# Altium footprint library Tant_7343.PcbLib: 3 footprints
Each footprint in its own frame and in the unit in brackets; x right, y up, seen from the top. Pads: shape width x height; smd on the part's side, far side on the other; paste and mask are expansions set on the pad; w line width, h text height; cw(c..) or ccw(c..) is an arc to the next point about the centre after c.
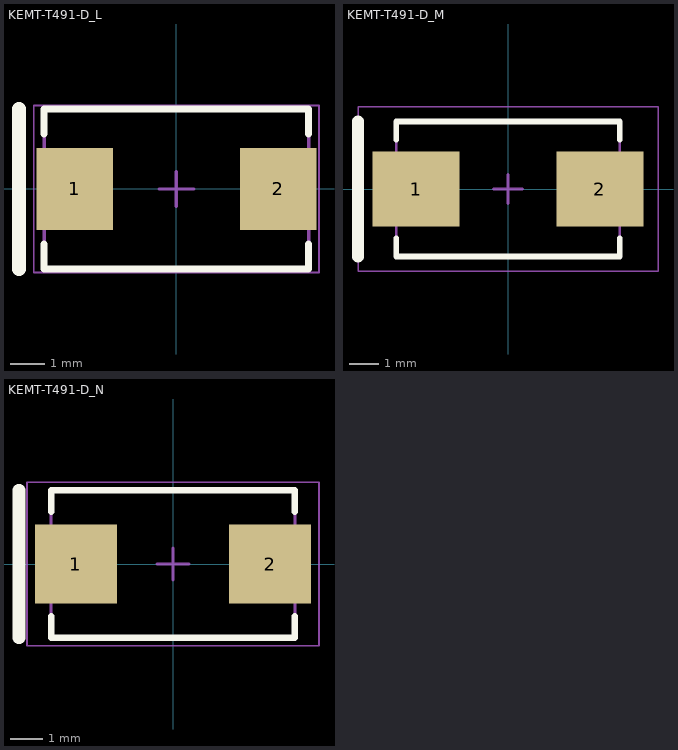
[diagram p0: the footprints below, top view; thin cyan lines are the x and y axes]

## KEMT-T491-D_L [mm] "Molded Capacitor, 2-Leads, Body 7.60x4.60mm, IPC High Density"
height 3.1
pads (2):
  rect 2.2x2.35 smd: 1(-2.925,0) 2(2.925,0)
Top Overlay:
  lines w0.2: -3.8,-1.575 -3.8,-2.3 3.8,-2.3 3.8,-1.575 ; -3.8,1.575 -3.8,2.3 3.8,2.3 3.8,1.575
  lines w0.4: -4.525,-2.3 -4.525,2.3
Mechanical 13:
  lines w0.1: -3.8,-2.3 3.8,-2.3 3.8,2.3 -3.8,2.3 -3.8,-2.3
Mechanical 15:
  lines w0.05: -4.1,-2.4 4.1,-2.4 4.1,2.4 -4.1,2.4 -4.1,-2.4
  lines w0.1: -0.5,0 0.5,0 ; 0,-0.5 0,0.5
3D body "T491D476M006AT.step": height 3.1, standoff 0, extent -3.8,-2.3 3.8,2.3

## KEMT-T491-D_M [mm] "Molded Capacitor, 2-Leads, Body 7.60x4.60mm, IPC Low Density"
height 3.1
pads (2):
  rect 2.95x2.55 smd: 1(-3.125,0) 2(3.125,0)
Top Overlay:
  lines w0.2: -3.8,-1.675 -3.8,-2.3 3.8,-2.3 3.8,-1.675 ; -3.8,1.675 -3.8,2.3 3.8,2.3 3.8,1.675
  lines w0.4: -5.1,-2.3 -5.1,2.3
Mechanical 13:
  lines w0.1: -3.8,-2.3 3.8,-2.3 3.8,2.3 -3.8,2.3 -3.8,-2.3
Mechanical 15:
  lines w0.05: -5.1,-2.8 5.1,-2.8 5.1,2.8 -5.1,2.8 -5.1,-2.8
  lines w0.1: -0.5,0 0.5,0 ; 0,-0.5 0,0.5
3D body "T491D476M006AT.step": height 3.1, standoff 0, extent -3.8,-2.3 3.8,2.3

## KEMT-T491-D_N [mm] "Molded Capacitor, 2-Leads, Body 7.60x4.60mm, IPC Medium Density"
height 3.1
pads (2):
  rect 2.55x2.45 smd: 1(-3.025,0) 2(3.025,0)
Top Overlay:
  lines w0.2: -3.8,-1.625 -3.8,-2.3 3.8,-2.3 3.8,-1.625 ; -3.8,1.625 -3.8,2.3 3.8,2.3 3.8,1.625
  lines w0.4: -4.8,-2.3 -4.8,2.3
Mechanical 13:
  lines w0.1: -3.8,-2.3 3.8,-2.3 3.8,2.3 -3.8,2.3 -3.8,-2.3
Mechanical 15:
  lines w0.05: -4.55,-2.55 4.55,-2.55 4.55,2.55 -4.55,2.55 -4.55,-2.55
  lines w0.1: -0.5,0 0.5,0 ; 0,-0.5 0,0.5
3D body "T491D476M006AT.step": height 3.1, standoff 0, extent -3.8,-2.3 3.8,2.3